# Altium footprint library Button_Switch_THT.PcbLib: 106 footprints (part 7 of 7)
Each footprint in its own frame and in the unit in brackets; x right, y up, seen from the top. Pads: shape width x height; smd on the part's side, far side on the other; paste and mask are expansions set on the pad; w line width, h text height; cw(c..) or ccw(c..) is an arc to the next point about the centre after c.
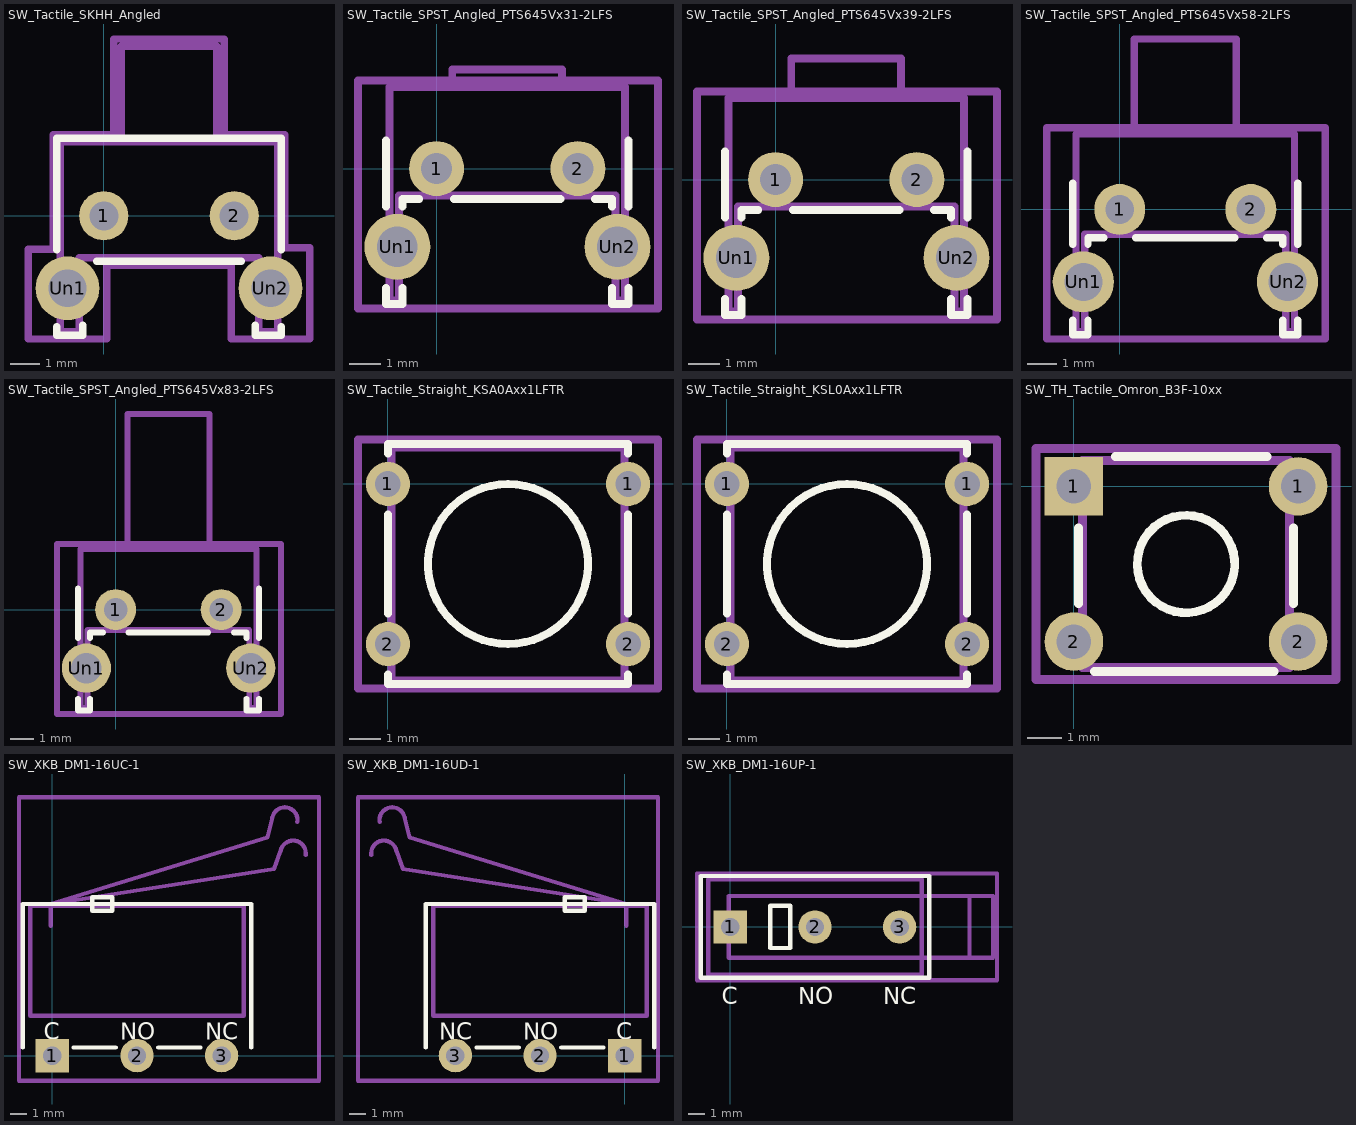
[diagram p6: the footprints below, top view; thin cyan lines are the x and y axes]

## SW_Tactile_SKHH_Angled [mm]
pads (4):
  round 1.7 hole 1: 1(0,0) 2(4.5,0)
  round 2.2 hole 1.3: Un1(-1.25,-2.5) Un2(5.75,-2.5)
F.SilkS:
  lines w0.254: -1.62,-3.82 -1.62,-4.12 -0.73,-4.12 -0.73,-3.77 ; -1.62,-1.18 -1.62,2.67 6.12,2.67 6.12,-1.18 ; -0.24,-1.57 4.74,-1.57 ; 5.23,-3.77 5.23,-4.12 6.12,-4.12 6.12,-3.82
F.Fab:
  lines w0.254: 0.6,2.55 0.6,5.85 3.9,5.85 3.9,2.55 ; -1.5,-4 -1.5,2.55 6,2.55 6,-4 5.35,-4 5.35,-1.45 -0.85,-1.45 -0.85,-4 -1.5,-4
  text "'.Designator'" at -1.797,0.66 h1
F.CrtYd:
  lines w0.254: -2.6,-4.25 -2.6,-1.15 -1.75,-1.15 -1.75,2.8 0.35,2.8 0.35,6.1 4.15,6.1 4.15,2.8 6.25,2.8 6.25,-1.1 7.1,-1.1 7.1,-4.25 4.4,-4.25 4.4,-1.7 0.1,-1.7 0.1,-4.25 -2.6,-4.25

## SW_Tactile_SPST_Angled_PTS645Vx31-2LFS [mm]
pads (4):
  round 1.75 hole 0.99: 1(0,0) 2(4.5,0)
  round 2.1 hole 1.3: Un1(-1.25,-2.49) Un2(5.76,-2.49)
F.SilkS:
  lines w0.254: -1.61,-3.8 -1.61,-4.31 -1.09,-4.31 -1.09,-3.8 ; -1.61,-1.2 -1.61,0.9 ; -1.09,-1.2 -1.09,-0.97 -0.55,-0.97 ; 0.55,-0.97 3.95,-0.97 ; 5.05,-0.97 5.59,-0.97 5.59,-1.2 ; 5.59,-3.8 5.59,-4.31 6.11,-4.31 6.11,-3.8 ; 6.11,-1.2 6.11,0.9
F.Fab:
  lines w0.254: 0.5,2.59 0.5,3.15 4,3.15 4,2.59 ; -1.5,-4.2 -1.5,2.59 6,2.59 6,-4.2 5.7,-4.2 5.7,-0.86 -1.2,-0.86 -1.2,-4.2 -1.5,-4.2
  text "'.Designator'" at -1.797,-2.52 h1
F.CrtYd:
  lines w0.254: -2.5,-4.45 -2.5,2.8 7.05,2.8 7.05,-4.45 -2.5,-4.45

## SW_Tactile_SPST_Angled_PTS645Vx39-2LFS [mm]
pads (4):
  round 1.75 hole 0.99: 1(0,0) 2(4.5,0)
  round 2.1 hole 1.3: Un1(-1.25,-2.49) Un2(5.76,-2.49)
F.SilkS:
  lines w0.254: -1.61,-3.8 -1.61,-4.31 -1.09,-4.31 -1.09,-3.8 ; -1.61,-1.2 -1.61,0.9 ; -1.09,-1.2 -1.09,-0.97 -0.55,-0.97 ; 0.55,-0.97 3.95,-0.97 ; 5.05,-0.97 5.59,-0.97 5.59,-1.2 ; 5.59,-3.8 5.59,-4.31 6.11,-4.31 6.11,-3.8 ; 6.11,-1.2 6.11,0.9
F.Fab:
  lines w0.254: 0.5,2.59 0.5,3.85 4,3.85 4,2.59 ; -1.5,-4.2 -1.5,2.59 6,2.59 6,-4.2 5.7,-4.2 5.7,-0.86 -1.2,-0.86 -1.2,-4.2 -1.5,-4.2
  text "'.Designator'" at -1.797,-2.52 h1
F.CrtYd:
  lines w0.254: -2.5,-4.45 -2.5,2.8 7.05,2.8 7.05,-4.45 -2.5,-4.45

## SW_Tactile_SPST_Angled_PTS645Vx58-2LFS [mm]
pads (4):
  round 1.75 hole 0.99: 1(0,0) 2(4.5,0)
  round 2.1 hole 1.3: Un1(-1.25,-2.49) Un2(5.76,-2.49)
F.SilkS:
  lines w0.254: -1.61,-3.8 -1.61,-4.31 -1.09,-4.31 -1.09,-3.8 ; -1.61,-1.2 -1.61,0.9 ; -1.09,-1.2 -1.09,-0.97 -0.55,-0.97 ; 0.55,-0.97 3.95,-0.97 ; 5.05,-0.97 5.59,-0.97 5.59,-1.2 ; 5.59,-3.8 5.59,-4.31 6.11,-4.31 6.11,-3.8 ; 6.11,-1.2 6.11,0.9
F.Fab:
  lines w0.254: 0.5,2.59 0.5,5.85 4,5.85 4,2.59 ; -1.5,-4.2 -1.5,2.59 6,2.59 6,-4.2 5.7,-4.2 5.7,-0.86 -1.2,-0.86 -1.2,-4.2 -1.5,-4.2
  text "'.Designator'" at -1.797,-2.52 h1
F.CrtYd:
  lines w0.254: -2.5,-4.45 -2.5,2.8 7.05,2.8 7.05,-4.45 -2.5,-4.45

## SW_Tactile_SPST_Angled_PTS645Vx83-2LFS [mm]
pads (4):
  round 1.75 hole 0.99: 1(0,0) 2(4.5,0)
  round 2.1 hole 1.3: Un1(-1.25,-2.49) Un2(5.76,-2.49)
F.SilkS:
  lines w0.254: -1.61,-3.8 -1.61,-4.31 -1.09,-4.31 -1.09,-3.8 ; -1.61,-1.2 -1.61,0.9 ; -1.09,-1.2 -1.09,-0.97 -0.55,-0.97 ; 0.55,-0.97 3.95,-0.97 ; 5.05,-0.97 5.59,-0.97 5.59,-1.2 ; 5.59,-3.8 5.59,-4.31 6.11,-4.31 6.11,-3.8 ; 6.11,-1.2 6.11,0.9
F.Fab:
  lines w0.254: 0.5,2.59 0.5,8.35 4,8.35 4,2.59 ; -1.5,-4.2 -1.5,2.59 6,2.59 6,-4.2 5.7,-4.2 5.7,-0.86 -1.2,-0.86 -1.2,-4.2 -1.5,-4.2
  text "'.Designator'" at -1.797,-2.52 h1
F.CrtYd:
  lines w0.254: -2.5,-4.45 -2.5,2.8 7.05,2.8 7.05,-4.45 -2.5,-4.45

## SW_Tactile_Straight_KSA0Axx1LFTR [mil]
pads (4):
  round 55 hole 32: 1(0,0) 1(300,0) 2(0,-200) 2(300,-200)
F.SilkS:
  circle w10: c150,-100 r100
  lines w10: 0,-238.19 0,-250 300,-250 300,-238.19 ; 0,-161.81 0,-38.19 ; 0,38.19 0,50 300,50 300,38.19 ; 300,-161.81 300,-38.19
F.Fab:
  lines w10: 4.33,-245.67 4.33,45.67 295.67,45.67 295.67,-245.67 4.33,-245.67
  text "'.Designator'" at -9.32,-133.08 h39.37
F.CrtYd:
  lines w10: -37.4,-255.51 -37.4,55.51 337.4,55.51 337.4,-255.51 -37.4,-255.51

## SW_Tactile_Straight_KSL0Axx1LFTR [mil]
pads (4):
  round 55 hole 32: 1(0,0) 1(300,0) 2(0,-200) 2(300,-200)
F.SilkS:
  circle w10: c150,-100 r100
  lines w10: 0,-238.19 0,-250 300,-250 300,-238.19 ; 0,-161.81 0,-38.19 ; 0,38.19 0,50 300,50 300,38.19 ; 300,-161.81 300,-38.19
F.Fab:
  lines w10: 4.33,-245.67 4.33,45.67 295.67,45.67 295.67,-245.67 4.33,-245.67
  text "'.Designator'" at -9.32,-133.08 h39.37
F.CrtYd:
  lines w10: -37.4,-255.51 -37.4,55.51 337.4,55.51 337.4,-255.51 -37.4,-255.51

## SW_TH_Tactile_Omron_B3F-10xx [mm]
pads (4):
  rect 1.7x1.7 hole 1: 1(0,0)
  round 1.7 hole 1: 1(6.5,0) 2(0,-4.5) 2(6.5,-4.5)
F.SilkS:
  circle w0.254: c3.25,-2.25 r1.414
  lines w0.254: 0.13,-3.4 0.13,-1.2 ; 0.6,-5.37 5.8,-5.37 ; 1.2,0.87 5.6,0.87 ; 6.37,-3.4 6.37,-1.2
F.Fab:
  lines w0.254: 0.25,-5.25 0.25,0.75 6.25,0.75 6.25,-5.25 0.25,-5.25
  text "'.Designator'" at -0.797,-3.09 h1
F.CrtYd:
  lines w0.254: -1.1,-5.6 -1.1,1.1 7.6,1.1 7.6,-5.6 -1.1,-5.6

## SW_XKB_DM1-16UC-1 [mm]
pads (3):
  rect 2x2 hole 1.1: 1(0,0)
  round 2 hole 1.1: 2(5.08,0) 3(10.16,0)
F.SilkS:
  lines w0.254: -1.778,0.495 -1.778,9.1 11.938,9.1 11.938,0.495 ; 1.27,0.495 3.81,0.495 ; 6.35,0.495 8.89,0.495 ; 2.4,8.7 3.6,8.7 3.6,9.5 2.4,9.5 2.4,8.7
  text "C" at -0.507,0.95 h1
  text "NO" at 4.078,0.95 h1
  text "NC" at 9.182,0.95 h1
F.Fab:
  lines w0.254: -1.32,2.4 -1.32,9 11.48,9 11.48,2.4 -1.32,2.4
  text "'.Designator'" at 1.033,4.1 h1
F.CrtYd:
  lines w0.254: -2,-1.5 -2,15.5 16,15.5 16,-1.5 -2,-1.5
Dwgs.User:
  lines w0.254: -0.1,7.8 -0.1,9.1 ; 12.9,13.1 -0.1,9.1 ; 12.9,13.108 13.2,14.292 cw(c13.947,14.138) 14.702,14.029 ; 13.3,11.2 -0.1,9.1 ; 13.3,11.208 13.7,12.3 cw(c14.447,12.146) 15.202,12.037

## SW_XKB_DM1-16UD-1 [mm]
pads (3):
  rect 2x2 hole 1.1: 1(0,0)
  round 2 hole 1.1: 2(-5.08,0) 3(-10.16,0)
F.SilkS:
  lines w0.254: -11.938,0.495 -11.938,9.1 1.778,9.1 1.778,0.495 ; -8.89,0.495 -6.35,0.495 ; -3.81,0.495 -1.27,0.495 ; -3.6,8.7 -3.6,9.5 -2.4,9.5 -2.4,8.7 -3.6,8.7
  text "NO" at -6.082,0.95 h1
  text "NC" at -11.138,0.95 h1
  text "C" at -0.507,0.95 h1
F.Fab:
  lines w0.254: -11.48,2.4 -11.48,9 1.32,9 1.32,2.4 -11.48,2.4
  text "'.Designator'" at -9.127,4.1 h1
F.CrtYd:
  lines w0.254: -16,-1.5 -16,15.5 2,15.5 2,-1.5 -16,-1.5
Dwgs.User:
  lines w0.254: -15.202,12.037 cw(c-14.447,12.146) -13.7,12.3 -13.3,11.208 ; -14.702,14.029 cw(c-13.947,14.138) -13.2,14.292 -12.9,13.108 ; -13.3,11.2 0.1,9.1 ; -12.9,13.1 0.1,9.1 ; 0.1,7.8 0.1,9.1

## SW_XKB_DM1-16UP-1 [mm]
pads (3):
  rect 2x2 hole 1.1: 1(0,0)
  round 2 hole 1.1: 2(5.08,0) 3(10.16,0)
F.SilkS:
  lines w0.254: -1.778,-3.048 11.938,-3.048 11.938,3.048 -1.778,3.048 -1.778,-3.048 ; 2.4,-1.27 2.4,1.27 3.6,1.27 3.6,-1.27 2.4,-1.27
  text "NC" at 9.182,-4.65 h1
  text "C" at -0.507,-4.65 h1
  text "NO" at 4.078,-4.65 h1
F.Fab:
  lines w0.254: -1.32,-2.85 -1.32,2.85 11.48,2.85 11.48,-2.85 -1.32,-2.85
  text "'.Designator'" at 1.033,1.192 h1
F.CrtYd:
  lines w0.254: -2,-3.2 -2,3.2 16,3.2 16,-3.2 -2,-3.2
Dwgs.User:
  lines w0.254: 14.357,-1.85 14.357,1.85 ; -0.1,-1.85 -0.1,1.85 15.76,1.85 15.76,-1.85 -0.1,-1.85